# EAGLE library part AON7544 (library AON7544)
MOSFET N Trench 30V 30A(Tc) 2.2V @ 250uA 5 m @ 20A,10V DFN-8_3x3 EP RoHS Source: Datasheet <https://datasheet.lcsc.com/lcsc/1912111437_Alpha---Omega-Semicon-AON7544_C315567.pdf>
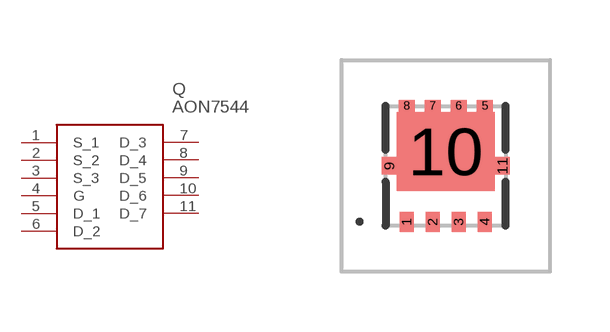
[diagram p0: symbol with the pads of AON7544; footprint AON7544]

Designator prefix Q

## AON7544 (Description: MOSFET N Trench 30V 30A(Tc) 2.2V @ 250uA 5 m @ 20A,10V DFN-8_3x3 EP RoHS; Height: 0.9mm; Manufacturer_Name: Alpha & Omega Semiconductors; Manufacturer_Part_Number: AON7544)  [AON7544]
1  S_1
2  S_2
3  S_3
4  G
5  D_1
6  D_2
7  D_3
8  D_4
9  D_5
10  D_6
11  D_7

## Footprint AON7544 (pad centres in mm)
AON7544-3
smd 0.35 x 0.5: 1 -0.975,-1.4; 2 -0.325,-1.4; 3 0.325,-1.4; 4 0.975,-1.4
smd 0.4 x 0.3: 5 0.975,1.5; 6 0.325,1.5; 7 -0.325,1.5; 8 -0.975,1.5
smd 0.38 x 0.43: 9 -1.415,0; 11 1.415,0
smd 2.45 x 1.98: 10 0,0.36